# Altium schematic symbol library 222-4416V1.SchLib: 1 symbol
Pins are listed as number, name and electrical type; pins without a type are passive.

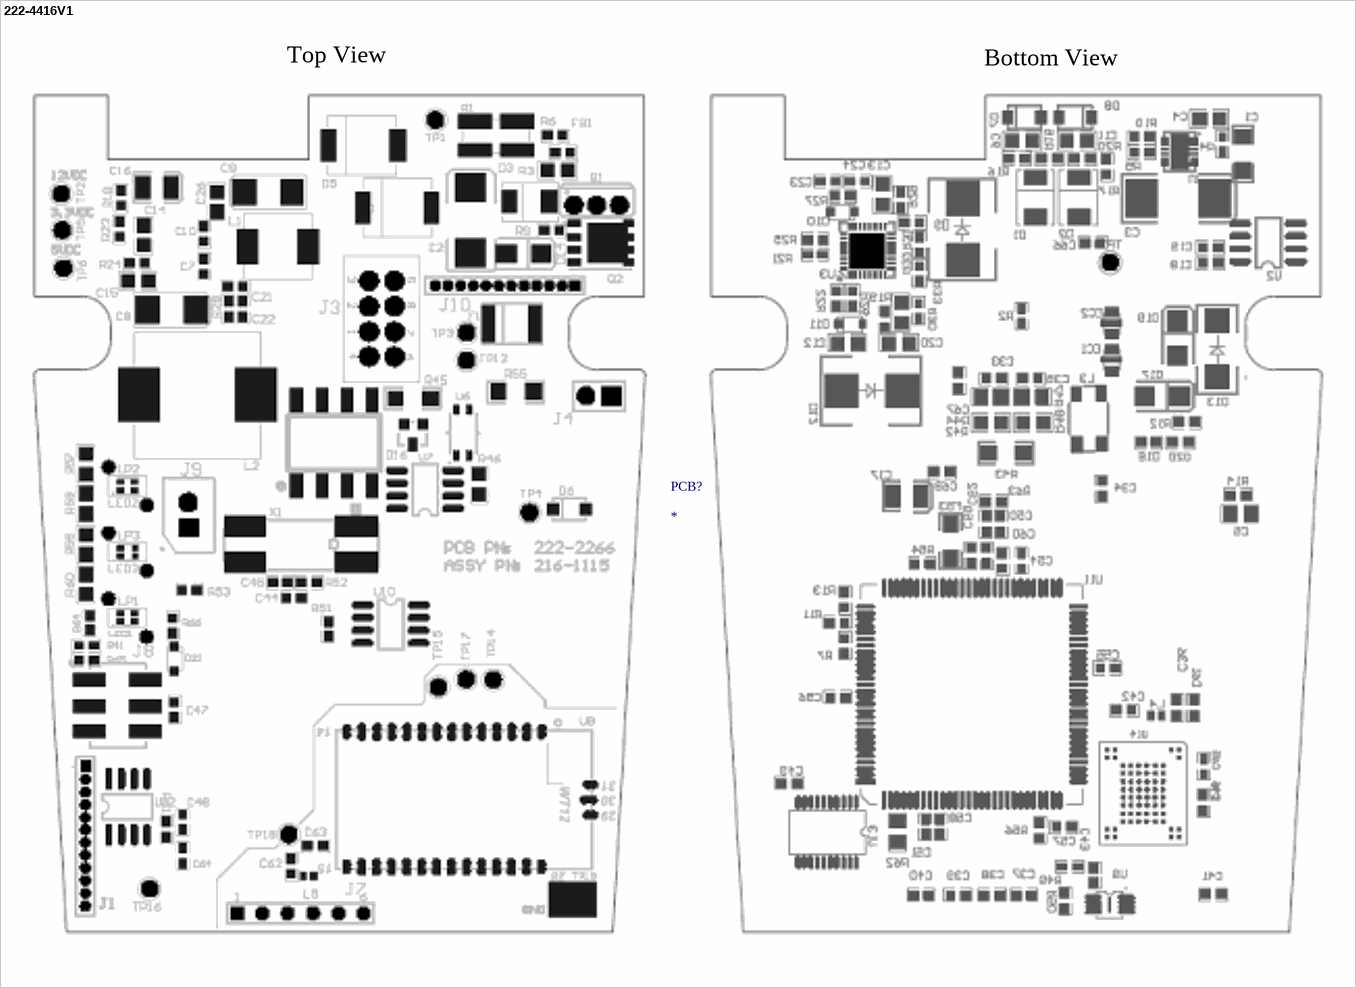
[diagram p0: symbol 222-4416V1]

## 222-4416V1
designator PCB?
Bluetooth Service Tool Bare Board
text: Top View; Bottom View